# Altium schematic symbol library First32.SchLib: 28 symbols
Pins are listed as number, name and electrical type; pins without a type are passive.

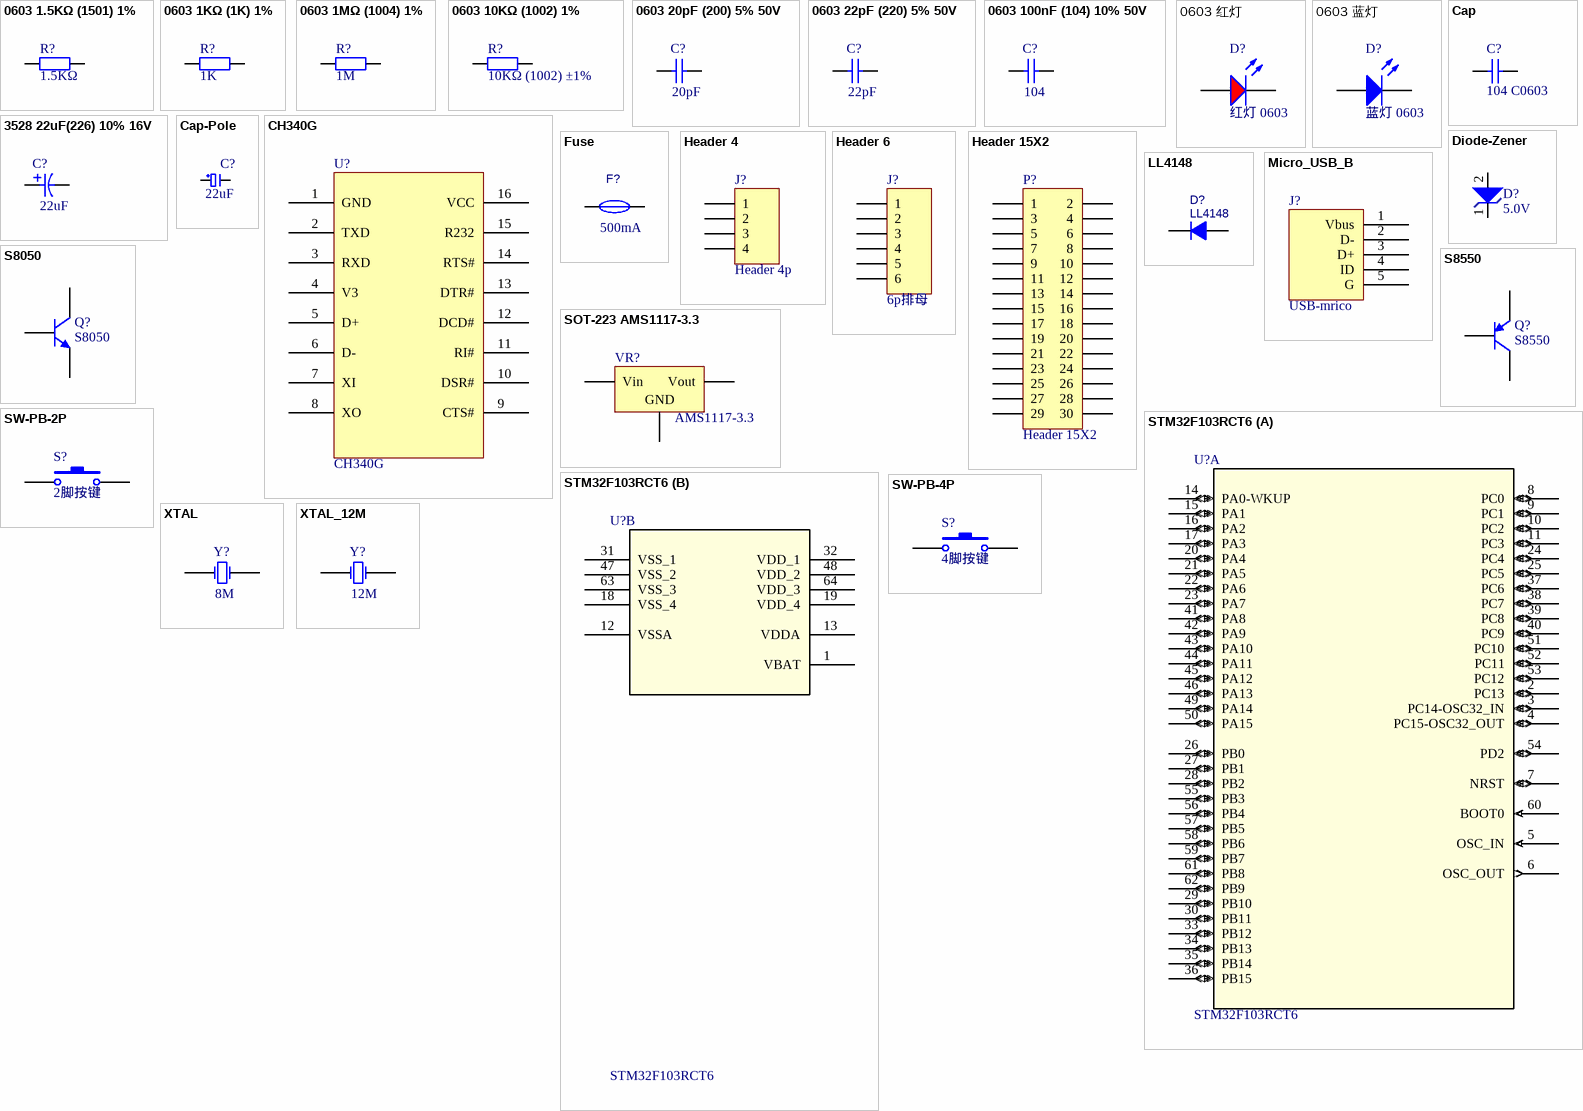
[diagram p0: symbols 0603 1.5KΩ (1501) 1% to XTAL_12M]

## 0603 1.5KΩ (1501) 1%
designator R?, comment 1.5KΩ
贴片电阻; ComponentLink1Description: 供应商链接; ComponentLink1URL: http://www.szlcsc.com/product/details_23570.html; Package: 0603; Supplier: LC; SuppliersPartNumber: C22843
footprint 0603_R
pins: 1, 2

## 0603 1KΩ (1K) 1%
designator R?, comment 1K
贴片电阻; ComponentLink1Description: 供应商链接; ComponentLink1URL: https://item.szlcsc.com/775304.html; Package: 0603; Supplier: LC; SuppliersPartNumber: C727989
footprint 0603_R
pins: 1, 2

## 0603 1MΩ (1004) 1%
designator R?, comment 1M
贴片电阻; ComponentLink1Description: 供应商链接; ComponentLink1URL: https://item.szlcsc.com/23662.html; Package: 0603; Supplier: LC; SuppliersPartNumber: C22935
footprint 0603_R
pins: 1, 2

## 0603 10KΩ (1002) 1%
designator R?, comment 10KΩ (1002) ±1%
贴片电阻; ComponentLink1Description: 供应商链接; ComponentLink1URL: http://www.szlcsc.com/product/details_26547.html; Package: 0603; Supplier: LC; SuppliersPartNumber: C25804
footprint 0603_R
pins: 1, 2

## 0603 20pF (200) 5% 50V
designator C?, comment value 20pF  (hidden comment: 20pF (220) 5% 50V)
贴片电容; ComponentLink1Description: 供应商链接; ComponentLink1URL: https://item.szlcsc.com/106836.html; Package: 0603; Supplier: LC; SuppliersPartNumber: C105621
footprint 0603_C
pins: 1, 2

## 0603 22pF (220) 5% 50V
designator C?, comment value 22pF  (hidden comment: 22pF (220) 5% 50V)
贴片电容; ComponentLink1Description: 供应商链接; ComponentLink1URL: http://www.szlcsc.com/product/details_2005.html; Package: 0603; Supplier: LC; SuppliersPartNumber: C1653
footprint 0603_C
pins: 1, 2

## 0603 100nF (104) 10% 50V
designator C?, comment value 104  (hidden comment: 100nF (104) 10% 50V)
贴片电容; ComponentLink1Description: 供应商链接; ComponentLink1URL: http://www.szlcsc.com/product/details_15331.html; Package: 0603; Supplier: LC; SuppliersPartNumber: C14663
footprint 0603_C
pins: 1, 2

## 0603 红灯
designator D?, comment 红灯 0603
发光二极管; ComponentLink1Description: 供应商链接; ComponentLink1URL: https://item.szlcsc.com/73153.html; Package: 0603; Supplier: LC; SuppliersPartNumber: C72044
footprint 0603_LED
pins: A, K

## 0603 蓝灯
designator D?, comment 蓝灯 0603
发光二极管; ComponentLink1Description: 供应商链接; ComponentLink1URL: https://item.szlcsc.com/73153.html; Package: 0603; Supplier: LC; SuppliersPartNumber: C72044
footprint 0603_LED
pins: A, K

## 3528 22uF(226) 10% 16V
designator C?, comment value 22uF  (hidden comment: 22uF(226) 10% 16V)
钽电容; Package: Case-B_3528; Supplier: LC; SuppliersPartNumber: C129568; ComponentLink1Description: 供应商链接; ComponentLink1URL: https://item.szlcsc.com/140854.html
footprint CASE-B_3528
pins: 1, 2

## Cap
designator C?, comment 104 C0603
Value: 104; Published: 8-Jun-2000; LatestRevisionDate: 17-Jul-2002; LatestRevisionNote: Re-released for DXP Platform.; Publisher: Altium Limited
simulation model CAP (Capacitor)
signal-integrity model Cap
footprint C 0603 (无极性贴片电容)
pins: 1, 2

## Cap-Pole
designator C?, comment 22uF
电解电容  有极电容; Value: 22uF
footprint CASE-B_3528
pins: 1, 2

## CH340G
designator U?
Package: SOP-16_150mil; ComponentLink1Description: 供应商链接; ComponentLink1URL: https://item.szlcsc.com/14927.html; SuppliersPartNumber: C14267
footprint SOP-16_150mil (SOIC, 16-Leads, Body 9.9x3.9mm, Pitch 1.27mm, IPC Low Density)
pins: 1 GND, 2 TXD, 3 RXD, 4 V3, 5 D+, 6 D-, 7 XI, 8 XO, 9 CTS#, 10 DSR#, 11 RI#, 12 DCD#, 13 DTR#, 14 RTS#, 15 R232, 16 VCC

## Diode-Zener
designator D?, comment value 5.0V  (hidden comment: 5V)
稳压二极管
footprint SOD-123
pins: 1 K, 2 A

## Fuse
designator F?, comment value 500mA  (hidden comment: TLC-PSMD050)
保险; BOM_Manufacturer: TLC Electronic; Contributor: LCSC; BOM_Supplier: LCSC; BOM_Supplier Part: C261942; BOM_Manufacturer Part: TLC-PSMD050; BOM_JLCPCB Part Class: Extended Part; spicePre: U; spiceSymbolName: TLC-PSMD050; Package: 0805; ComponentLink1Description: 供应商链接; ComponentLink1URL: https://item.szlcsc.com/253417.html
footprint 0805_F
pins: 1, 2

## Header 4
designator J?, comment Header 4p
Header, 4-Pin; LatestRevisionDate: 17-Jul-2002; LatestRevisionNote: Re-released for DXP Platform.; Publisher: Altium Limited
footprint HDR 1X4 (Connector; Header; 4 Position)
signal-integrity model Connector
pins: 1, 2, 3, 4

## Header 6
designator J?, comment 6p排母
Header, 6-Pin; LatestRevisionDate: 17-Jul-2002; LatestRevisionNote: Re-released for DXP Platform.; Publisher: Altium Limited
signal-integrity model Connector
pins: 1, 2, 3, 4, 5, 6

## Header 15X2
designator P?
Header, 15-Pin, Dual row; Publisher: Altium Limited; ComponentLink1Description: 供应商链接; ComponentLink1URL: https://item.szlcsc.com/57525.html; Package: Through Hole, 2.54mm; SuppliersPartNumber: C56496
signal-integrity model Connector
footprint HDR 2x15 2.54 mm
pins: 1, 2, 3, 4, 5, 6, 7, 8, 9, 10, 11, 12, 13, 14, 15, 16, 17, 18, 19, 20, 21, 22, 23, 24, 25, 26, 27, 28, 29, 30

## LL4148
designator D?
BOM_Manufacturer: SEMTECH; BOM_Supplier: LCSC; BOM_Manufacturer Part: LL4148; BOM_Supplier Part: C9808; BOM_JLCPCB Part Class: Basic Part; spicePre: D; spiceSymbolName: LL4148; ComponentLink1Description: 供应商链接; ComponentLink1URL: https://item.szlcsc.com/10338.html
footprint LL-34
pins: 1 A, 2 K

## Micro_USB_B
designator J?, comment USB-mrico
footprint SMD-USB-micro_B (micro型USB ，5.7*7.8*2.5mm)
pins: 1 Vbus, 2 D-, 3 D+, 4 ID, 5 G

## S8050
designator Q?
NPN三极管; ComponentLink1Description: Manufacturer Link; ComponentLink1URL: https://item.szlcsc.com/379088.html; SuppliersPartNumber: C397180; Package: SOT-23
footprint SOT-23 (1,3,2脚序，适合TL431等)
pins: 1 B, 2 E, 3 C

## S8550
designator Q?
PNP三极管; Package: SOT23; Publisher: Altium Limited; ComponentLink1Description: Manufacturer Link; ComponentLink1URL: https://item.szlcsc.com/774241.html; SuppliersPartNumber: C727136
footprint SOT-23 (1,3,2脚序，适合TL431等)
pins: 1 B, 2 E, 3 C

## SOT-223 AMS1117-3.3
designator VR?, comment AMS1117-3.3
低压差线性稳压(LDO); ComponentLink1Description: 供应商链接; ComponentLink1URL: http://www.szlcsc.com/product/details_6652.html; Package: SOT-223; Supplier: LC; SuppliersPartNumber: C6186
footprint SOT-223
pins: 1 GND, 2 Vout, 3 Vin

## STM32F103RCT6
designator U?
No Description Available; Built_By: EMA_UL_Team; SourceLibrary: Updates_to_database_2020-10-19; Vendor: STMicroelectronics; Copyright: Copyright (C) 2018 Accelerated Designs. All rights reserved; RefDes: RefDes; Type: DEV; Manufacturer_Part_Number: STM32F103RCT6
footprint LQFP64-10x10mm
part A pins: 2 PC13 (io), 3 PC14-OSC32_IN (io), 4 PC15-OSC32_OUT (io), 5 OSC_IN (in), 6 OSC_OUT (out), 7 NRST (io), 8 PC0 (io), 9 PC1 (io), 10 PC2 (io), 11 PC3 (io), 14 PA0-WKUP (io), 15 PA1 (io), 16 PA2 (io), 17 PA3 (io), 20 PA4 (io), 21 PA5 (io), 22 PA6 (io), 23 PA7 (io), 24 PC4 (io), 25 PC5 (io), 26 PB0 (io), 27 PB1 (io), 28 PB2 (io), 29 PB10 (io), 30 PB11 (io), 33 PB12 (io), 34 PB13 (io), 35 PB14 (io), 36 PB15 (io), 37 PC6 (io), 38 PC7 (io), 39 PC8 (io), 40 PC9 (io), 41 PA8 (io), 42 PA9 (io), 43 PA10 (io), 44 PA11 (io), 45 PA12 (io), 46 PA13 (io), 49 PA14 (io), 50 PA15 (io), 51 PC10 (io), 52 PC11 (io), 53 PC12 (io), 54 PD2 (io), 55 PB3 (io), 56 PB4 (io), 57 PB5 (io), 58 PB6 (io), 59 PB7 (io), 60 BOOT0 (in), 61 PB8 (io), 62 PB9 (io)
part B pins: 1 VBAT (power), 12 VSSA (power), 13 VDDA (power), 18 VSS_4 (power), 19 VDD_4 (power), 31 VSS_1 (power), 32 VDD_1 (power), 47 VSS_2 (power), 48 VDD_2 (power), 63 VSS_3 (power), 64 VDD_3 (power)

## SW-PB-2P
designator S?, comment 2脚按键
PackageReference: SMD 3*6*2.5; Publisher: LC; ComponentLink1Description: 供应商链接; ComponentLink1URL: https://item.szlcsc.com/330468.html; SuppliersPartNumber: C354943
footprint SW-SMD-3*6*2.5 (3*6*2.5mm)
pins: 1, 2

## SW-PB-4P
designator S?, comment 4脚按键
PackageReference: 4*4; Publisher: LC; ComponentLink1Description: 供应商链接; ComponentLink1URL: https://item.szlcsc.com/551001.html; SuppliersPartNumber: C530667
footprint SW-SMD-4*4
pins: 1, 2

## XTAL
designator Y?  value 8M  (hidden comment: XTAL)
Crystal Oscillator; Published: 8-Jun-2000; LatestRevisionDate: 17-Jul-2002; LatestRevisionNote: Re-released for DXP Platform.; PackageReference: R38; Publisher: Altium Limited; PackageDescription: Crystal, Thru-Hole; 2 Leads; Body 3.1 x 8.2 mm (Dia.xH)
simulation model XTAL (Spice Subcircuit)
footprint HC-49SMD
pins: 1 OSC1, 2 OSC2

## XTAL_12M
designator Y?, comment value 12M  (hidden comment: XTAL)
Crystal Oscillator; Published: 8-Jun-2000; LatestRevisionDate: 17-Jul-2002; LatestRevisionNote: Re-released for DXP Platform.; PackageReference: R38; Publisher: Altium Limited; PackageDescription: Crystal, Thru-Hole; 2 Leads; Body 3.1 x 8.2 mm (Dia.xH)
simulation model XTAL (Spice Subcircuit)
footprint HC-49S_L11.4-W4.8
pins: 1 OSC1, 2 OSC2